# EAGLE library part HY1 (library Panasonic Relay)
HY - 1 Form C - Single side stable Data sheet <https://www.panasonic-electric-works.com/eu/download.htm?id=55285> Parameters Max. switching voltage: 60V DC Max. switching current: 1A Operational function: single side stable Contact arrangement: 1 CO Applications Telecommunications equipment Security equipment Test and Measurement equipment Consumer electronic and Audio visual equipment Automotive equipment: auto mirror controller, retraceable head light controller Push button device: dial pulsing Portable video tape recorders and audio devices Computer peripherals Options Available as standard 200mW type (HY1-) or as 150mW high sensitivity type (HY1Z-).
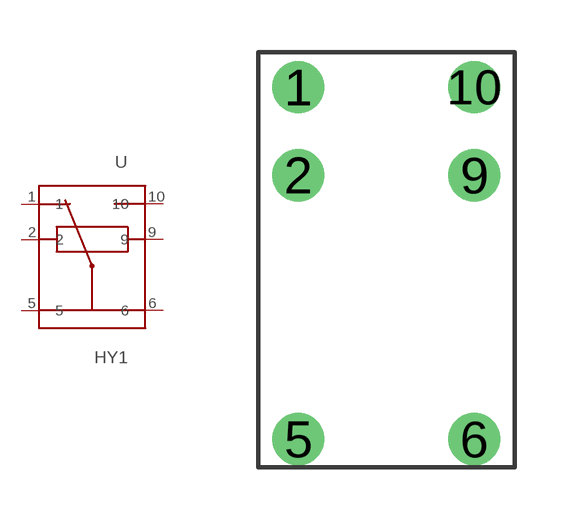
[diagram p37: symbol with the pads of HY_1_FORM_C; footprint HY_1_FORM_C]

Designator prefix -

## HY1-1.5V (U_COIL: 1.5V DC), HY1-12V (U_COIL: 12V DC), HY1-24V (U_COIL: 24V DC), HY1-3V (U_COIL: 3V DC), HY1-4.5V (U_COIL: 4.5V DC), HY1-5V (U_COIL: 5V DC), HY1-6V (U_COIL: 6V DC), HY1-9V (U_COIL: 9V DC), HY1Z-1.5V (U_COIL: 1.5V DC), HY1Z-12V (U_COIL: 12V DC), HY1Z-24V (U_COIL: 24V DC), HY1Z-3V (U_COIL: 3V DC), HY1Z-4.5V (U_COIL: 4.5V DC), HY1Z-5V (U_COIL: 5V DC), HY1Z-6V (U_COIL: 6V DC), HY1Z-9V (U_COIL: 9V DC)  [HY_1_FORM_C]
1  1
2  2
5  5
6  6
9  9
10  10

## Footprint HY_1_FORM_C (pad centres in mm)
drill 1: 1 -2.54,4.98; 2 -2.54,2.44; 5 -2.54,-5.18; 6 2.54,-5.18; 9 2.54,2.44; 10 2.54,4.98